# Altium integrated library Capacitors - Ceramic - 0402.IntLib: 4569 symbols (part 38 of 100)
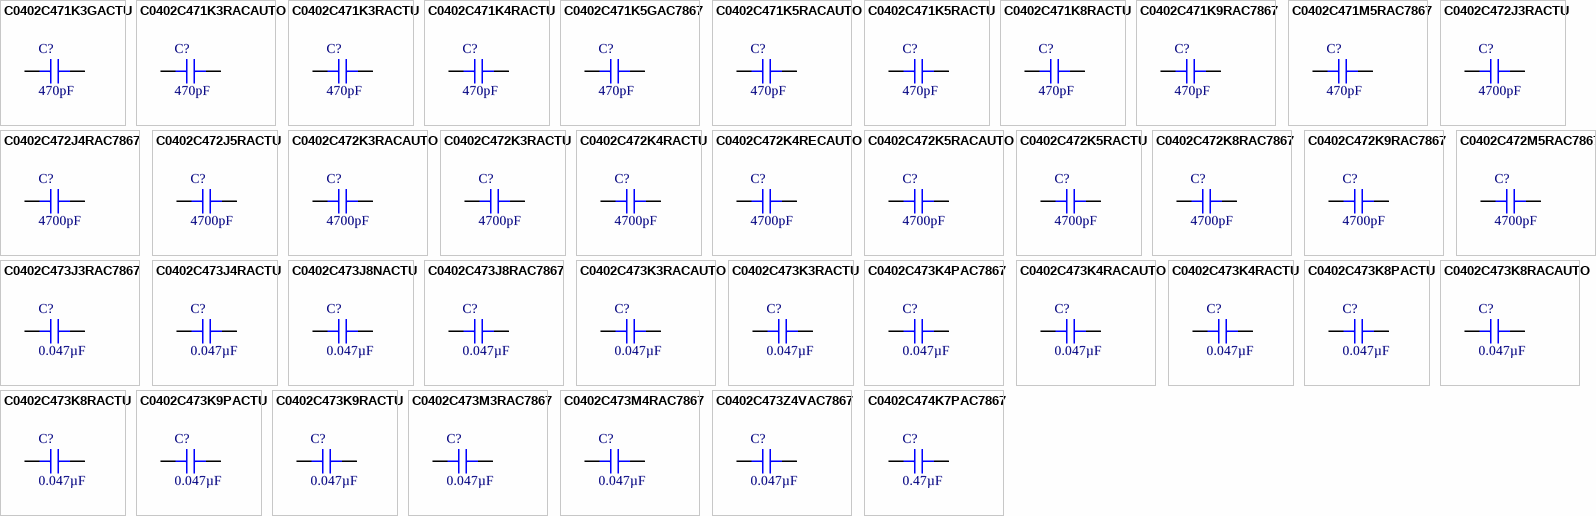
[diagram p151: symbols C0402C471K3GACTU to C0402C474K7PAC7867]

## C0402C471K3RACAUTO
designator C?, comment 470pF
CAP CER 470PF 25V X7R 0402; Part Number: C0402C471K3RACAUTO; Manufacturer: KEMET; Tolerance: ±10%; Value: 470pF; Applications: Automotive, Bypass, Decoupling; Capacitance: 470pF; ComponentLink1Description: Datasheet; ComponentLink1URL: https://api.kemet.com/component-edge/download/datasheet/C0402C471K3RACAUTO.pdf; ComponentLink2Description: DigiKey Link; ComponentLink2URL: http://digikey.com/product-detail/en/kemet/C0402C471K3RACAUTO/399-19377-1-ND/9694284; Device Package: 0402 (1005 Metric); LastUpdated: 9/2/2020 1:02:07 AM; Lifecycle Status: Active; Minimum Order: 1; Mounting Type: Surface Mount, MLCC; Operating Temperature: -55°C ~ 125°C; Package / Case: 0402 (1005 Metric); Packaging: TapeAndReel; PartId: 9682; Part Status: Active; Price: 0.08; Ratings: AEC-Q200; Series: SMD Auto X7R; Size / Dimension: 0.039" L x 0.020" W (1.00mm x 0.50mm); Supplier 1: DigiKey; Supplier Part Number 1: 399-19377-1-ND; Temperature Coefficient: X7R; Thickness (Max): 0.022" (0.55mm); Voltage - Rated: 25V
footprint CAP 0402_1005
pins: 1, 2

## C0402C471K3RACTU
designator C?, comment 470pF
CAP CER 470PF 25V X7R 0402; Part Number: C0402C471K3RACTU; Manufacturer: KEMET; Tolerance: ±10%; Value: 470pF; Applications: Bypass, Decoupling; Capacitance: 470pF; ComponentLink1Description: Datasheet; ComponentLink1URL: https://api.kemet.com/component-edge/download/datasheet/C0402C471K3RACTU.pdf; ComponentLink2Description: DigiKey Link; ComponentLink2URL: http://digikey.com/product-detail/en/kemet/C0402C471K3RACTU/399-1024-1-ND/411299; Device Package: 0402 (1005 Metric); LastUpdated: 9/2/2020 1:02:07 AM; Lifecycle Status: Active; Minimum Order: 1; Mounting Type: Surface Mount, MLCC; Operating Temperature: -55°C ~ 125°C; Package / Case: 0402 (1005 Metric); Packaging: TapeAndReel; PartId: 9649; Part Status: Active; Price: 0.08; Series: SMD Comm X7R; Size / Dimension: 0.039" L x 0.020" W (1.00mm x 0.50mm); Supplier 1: DigiKey; Supplier Part Number 1: 399-1024-1-ND; Temperature Coefficient: X7R; Thickness (Max): 0.022" (0.55mm); Voltage - Rated: 25V
footprint CAP 0402_1005
pins: 1, 2

## C0402C471K4RACTU
designator C?, comment 470pF
CAP CER 470PF 16V X7R 0402; Part Number: C0402C471K4RACTU; Manufacturer: KEMET; Tolerance: ±10%; Value: 470pF; Applications: Bypass, Decoupling; Capacitance: 470pF; ComponentLink1Description: Datasheet; ComponentLink1URL: https://api.kemet.com/component-edge/download/datasheet/C0402C471K4RACTU.pdf; ComponentLink2Description: DigiKey Link; ComponentLink2URL: http://digikey.com/product-detail/en/kemet/C0402C471K4RACTU/399-7799-1-ND/3471522; Device Package: 0402 (1005 Metric); LastUpdated: 9/2/2020 1:02:07 AM; Lifecycle Status: Active; Minimum Order: 1; Mounting Type: Surface Mount, MLCC; Operating Temperature: -55°C ~ 125°C; Package / Case: 0402 (1005 Metric); Packaging: TapeAndReel; PartId: 9664; Part Status: Active; Price: 0.08; Series: SMD Comm X7R; Size / Dimension: 0.039" L x 0.020" W (1.00mm x 0.50mm); Supplier 1: DigiKey; Supplier Part Number 1: 399-7799-1-ND; Temperature Coefficient: X7R; Thickness (Max): 0.022" (0.55mm); Voltage - Rated: 16V
footprint CAP 0402_1005
pins: 1, 2

## C0402C471K5GAC7867
designator C?, comment 470pF
CAP CER 470PF 50V NP0 0402; Part Number: C0402C471K5GAC7867; Manufacturer: KEMET; Temperature Coefficient: C0G, NP0; Tolerance: ±10%; Value: 470pF; Applications: General Purpose; Capacitance: 470pF; ComponentLink1Description: Datasheet; ComponentLink1URL: https://api.kemet.com/component-edge/download/datasheet/C0402C471K5GAC7867.pdf; ComponentLink2Description: DigiKey Link; ComponentLink2URL: http://digikey.com/product-detail/en/kemet/C0402C471K5GAC7867/399-14276-1-ND/6827267; Device Package: 0402 (1005 Metric); Features: Low ESL; LastUpdated: 9/2/2020 1:02:24 AM; Lifecycle Status: Active; Minimum Order: 1; Mounting Type: Surface Mount, MLCC; Operating Temperature: -55°C ~ 125°C; Package / Case: 0402 (1005 Metric); Packaging: TapeAndReel; PartId: 2083; Part Status: Active; Price: 0.02; Series: SMD Comm C0G; Size / Dimension: 0.039" L x 0.020" W (1.00mm x 0.50mm); Supplier 1: DigiKey; Supplier Part Number 1: 399-14276-1-ND; Thickness (Max): 0.022" (0.55mm); Voltage - Rated: 50V
footprint CAP 0402_1005
pins: 1, 2

## C0402C471K5RACAUTO
designator C?, comment 470pF
CAP CER 470PF 50V X7R 0402; Part Number: C0402C471K5RACAUTO; Manufacturer: KEMET; Tolerance: ±10%; Value: 470pF; Applications: Automotive, Bypass, Decoupling; Capacitance: 470pF; ComponentLink1Description: Datasheet; ComponentLink1URL: https://api.kemet.com/component-edge/download/datasheet/C0402C471K5RACAUTO.pdf; ComponentLink2Description: DigiKey Link; ComponentLink2URL: http://digikey.com/product-detail/en/kemet/C0402C471K5RACAUTO/399-15942-1-ND/7516442; Device Package: 0402 (1005 Metric); LastUpdated: 9/2/2020 1:02:22 AM; Lifecycle Status: Active; Minimum Order: 1; Mounting Type: Surface Mount, MLCC; Operating Temperature: -55°C ~ 125°C; Package / Case: 0402 (1005 Metric); Packaging: TapeAndReel; PartId: 2923; Part Status: Active; Price: 0.01; Ratings: AEC-Q200; Series: SMD Auto X7R; Size / Dimension: 0.039" L x 0.020" W (1.00mm x 0.50mm); Supplier 1: DigiKey; Supplier Part Number 1: 399-15942-1-ND; Temperature Coefficient: X7R; Thickness (Max): 0.022" (0.55mm); Voltage - Rated: 50V
footprint CAP 0402_1005
pins: 1, 2

## C0402C471K5RACTU
designator C?, comment 470pF
CAP CER 470PF 50V X7R 0402; Part Number: C0402C471K5RACTU; Manufacturer: KEMET; Tolerance: ±10%; Value: 470pF; Applications: Bypass, Decoupling; Capacitance: 470pF; ComponentLink1Description: Datasheet; ComponentLink1URL: https://api.kemet.com/component-edge/download/datasheet/C0402C471K5RACTU.pdf; ComponentLink2Description: DigiKey Link; ComponentLink2URL: http://digikey.com/product-detail/en/kemet/C0402C471K5RACTU/399-1025-1-ND/411300; Device Package: 0402 (1005 Metric); LastUpdated: 9/2/2020 1:02:19 AM; Lifecycle Status: Active; Minimum Order: 1; Mounting Type: Surface Mount, MLCC; Operating Temperature: -55°C ~ 125°C; Package / Case: 0402 (1005 Metric); Packaging: TapeAndReel; PartId: 4012; Part Status: Active; Price: 0.01; Series: SMD Comm X7R; Size / Dimension: 0.039" L x 0.020" W (1.00mm x 0.50mm); Supplier 1: DigiKey; Supplier Part Number 1: 399-1025-1-ND; Temperature Coefficient: X7R; Thickness (Max): 0.022" (0.55mm); Voltage - Rated: 50V
footprint CAP 0402_1005
pins: 1, 2

## C0402C471K8RACTU
designator C?, comment 470pF
CAP CER 470PF 10V X7R 0402; Part Number: C0402C471K8RACTU; Manufacturer: KEMET; Tolerance: ±10%; Value: 470pF; Applications: Bypass, Decoupling; Capacitance: 470pF; ComponentLink1Description: Datasheet; ComponentLink1URL: https://api.kemet.com/component-edge/download/datasheet/C0402C471K8RACTU.pdf; ComponentLink2Description: DigiKey Link; ComponentLink2URL: http://digikey.com/product-detail/en/kemet/C0402C471K8RACTU/399-10036-1-ND/3739531; Device Package: 0402 (1005 Metric); LastUpdated: 9/2/2020 1:02:23 AM; Lifecycle Status: Active; Minimum Order: 1; Mounting Type: Surface Mount, MLCC; Operating Temperature: -55°C ~ 125°C; Package / Case: 0402 (1005 Metric); Packaging: TapeAndReel; PartId: 2113; Part Status: Active; Price: 0.07; Series: SMD Comm X7R; Size / Dimension: 0.039" L x 0.020" W (1.00mm x 0.50mm); Supplier 1: DigiKey; Supplier Part Number 1: 399-10036-1-ND; Temperature Coefficient: X7R; Thickness (Max): 0.022" (0.55mm); Voltage - Rated: 10V
footprint CAP 0402_1005
pins: 1, 2

## C0402C471K9RAC7867
designator C?, comment 470pF
CAP CER 470PF 6.3V X7R 0402; Part Number: C0402C471K9RAC7867; Manufacturer: KEMET; Tolerance: ±10%; Value: 470pF; Applications: Bypass, Decoupling; Capacitance: 470pF; ComponentLink1Description: Datasheet; ComponentLink1URL: https://api.kemet.com/component-edge/download/datasheet/C0402C471K9RACTU.pdf; ComponentLink2Description: DigiKey Link; ComponentLink2URL: http://digikey.com/product-detail/en/kemet/C0402C471K9RAC7867/399-14458-1-ND/7103750; Device Package: 0402 (1005 Metric); LastUpdated: 9/2/2020 1:02:03 AM; Lifecycle Status: Active; Minimum Order: 1; Mounting Type: Surface Mount, MLCC; Operating Temperature: -55°C ~ 125°C; Package / Case: 0402 (1005 Metric); Packaging: TapeAndReel; PartId: 11171; Part Status: Active; Price: 0.07; Series: SMD Comm X7R; Size / Dimension: 0.039" L x 0.020" W (1.00mm x 0.50mm); Supplier 1: DigiKey; Supplier Part Number 1: 399-14458-1-ND; Temperature Coefficient: X7R; Thickness (Max): 0.022" (0.55mm); Voltage - Rated: 6.3V
footprint CAP 0402_1005
pins: 1, 2

## C0402C471M5RAC7867
designator C?, comment 470pF
CAP CER 470PF 50V X7R 0402; Part Number: C0402C471M5RAC7867; Manufacturer: KEMET; Tolerance: ±20%; Value: 470pF; Applications: Bypass, Decoupling; Capacitance: 470pF; ComponentLink1Description: Datasheet; ComponentLink1URL: https://api.kemet.com/component-edge/download/datasheet/C0402C471M5RACTU.pdf; ComponentLink2Description: DigiKey Link; ComponentLink2URL: http://digikey.com/product-detail/en/kemet/C0402C471M5RAC7867/399-14277-1-ND/6827268; Device Package: 0402 (1005 Metric); LastUpdated: 9/2/2020 1:02:05 AM; Lifecycle Status: Active; Minimum Order: 1; Mounting Type: Surface Mount, MLCC; Operating Temperature: -55°C ~ 125°C; Package / Case: 0402 (1005 Metric); Packaging: TapeAndReel; PartId: 10289; Part Status: Active; Price: 0.01; Series: SMD Comm X7R; Size / Dimension: 0.039" L x 0.020" W (1.00mm x 0.50mm); Supplier 1: DigiKey; Supplier Part Number 1: 399-14277-1-ND; Temperature Coefficient: X7R; Thickness (Max): 0.022" (0.55mm); Voltage - Rated: 50V
footprint CAP 0402_1005
pins: 1, 2

## C0402C472J3RACTU
designator C?, comment 4700pF
CAP CER 4700PF 25V X7R 0402; Part Number: C0402C472J3RACTU; Manufacturer: KEMET; Tolerance: ±5%; Value: 4700pF; Applications: Bypass, Decoupling; Capacitance: 4700pF; ComponentLink1Description: Datasheet; ComponentLink1URL: https://api.kemet.com/component-edge/download/datasheet/C0402C472J3RACTU.pdf; ComponentLink2Description: DigiKey Link; ComponentLink2URL: http://digikey.com/product-detail/en/kemet/C0402C472J3RACTU/399-7800-1-ND/3471523; Device Package: 0402 (1005 Metric); LastUpdated: 9/2/2020 1:02:07 AM; Lifecycle Status: Active; Minimum Order: 1; Mounting Type: Surface Mount, MLCC; Operating Temperature: -55°C ~ 125°C; Package / Case: 0402 (1005 Metric); Packaging: TapeAndReel; PartId: 9680; Part Status: Active; Price: 0.08; Series: SMD Comm X7R; Size / Dimension: 0.039" L x 0.020" W (1.00mm x 0.50mm); Supplier 1: DigiKey; Supplier Part Number 1: 399-7800-1-ND; Temperature Coefficient: X7R; Thickness (Max): 0.022" (0.55mm); Voltage - Rated: 25V
footprint CAP 0402_1005
pins: 1, 2

## C0402C472J4RAC7867
designator C?, comment 4700pF
CAP CER 4700PF 16V X7R 0402; Part Number: C0402C472J4RAC7867; Manufacturer: KEMET; Tolerance: ±5%; Value: 4700pF; Applications: Bypass, Decoupling; Capacitance: 4700pF; ComponentLink1Description: Datasheet; ComponentLink1URL: https://api.kemet.com/component-edge/download/datasheet/C0402C472J4RACTU.pdf; ComponentLink2Description: DigiKey Link; ComponentLink2URL: http://digikey.com/product-detail/en/kemet/C0402C472J4RAC7867/399-14459-1-ND/7103751; Device Package: 0402 (1005 Metric); LastUpdated: 9/2/2020 1:02:20 AM; Lifecycle Status: Active; Minimum Order: 1; Mounting Type: Surface Mount, MLCC; Operating Temperature: -55°C ~ 125°C; Package / Case: 0402 (1005 Metric); Packaging: TapeAndReel; PartId: 3738; Part Status: Active; Price: 0.10; Series: SMD Comm X7R; Size / Dimension: 0.039" L x 0.020" W (1.00mm x 0.50mm); Supplier 1: DigiKey; Supplier Part Number 1: 399-14459-1-ND; Temperature Coefficient: X7R; Thickness (Max): 0.022" (0.55mm); Voltage - Rated: 16V
footprint CAP 0402_1005
pins: 1, 2

## C0402C472J5RACTU
designator C?, comment 4700pF
CAP CER 4700PF 50V X7R 0402; Part Number: C0402C472J5RACTU; Manufacturer: KEMET; Tolerance: ±5%; Value: 4700pF; Applications: Bypass, Decoupling; Capacitance: 4700pF; ComponentLink1Description: Datasheet; ComponentLink1URL: https://api.kemet.com/component-edge/download/datasheet/C0402C472J5RACTU.pdf; ComponentLink2Description: DigiKey Link; ComponentLink2URL: http://digikey.com/product-detail/en/kemet/C0402C472J5RACTU/399-8968-1-ND/3522485; Device Package: 0402 (1005 Metric); LastUpdated: 9/2/2020 1:02:20 AM; Lifecycle Status: Active; Minimum Order: 1; Mounting Type: Surface Mount, MLCC; Operating Temperature: -55°C ~ 125°C; Package / Case: 0402 (1005 Metric); Packaging: TapeAndReel; PartId: 3740; Part Status: Active; Price: 0.08; Series: SMD Comm X7R; Size / Dimension: 0.039" L x 0.020" W (1.00mm x 0.50mm); Supplier 1: DigiKey; Supplier Part Number 1: 399-8968-1-ND; Temperature Coefficient: X7R; Thickness (Max): 0.022" (0.55mm); Voltage - Rated: 50V
footprint CAP 0402_1005
pins: 1, 2

## C0402C472K3RACAUTO
designator C?, comment 4700pF
CAP CER 4700PF 25V X7R 0402; Part Number: C0402C472K3RACAUTO; Manufacturer: KEMET; Tolerance: ±10%; Value: 4700pF; Applications: Automotive, Bypass, Decoupling; Capacitance: 4700pF; ComponentLink1Description: Datasheet; ComponentLink1URL: https://api.kemet.com/component-edge/download/datasheet/C0402C472K3RACAUTO.pdf; ComponentLink2Description: DigiKey Link; ComponentLink2URL: http://digikey.com/product-detail/en/kemet/C0402C472K3RACAUTO/399-19378-1-ND/9694285; Device Package: 0402 (1005 Metric); LastUpdated: 9/2/2020 1:02:17 AM; Lifecycle Status: Active; Minimum Order: 1; Mounting Type: Surface Mount, MLCC; Operating Temperature: -55°C ~ 125°C; Package / Case: 0402 (1005 Metric); Packaging: TapeAndReel; PartId: 5141; Part Status: Active; Price: 0.01; Ratings: AEC-Q200; Series: SMD Auto X7R; Size / Dimension: 0.039" L x 0.020" W (1.00mm x 0.50mm); Supplier 1: DigiKey; Supplier Part Number 1: 399-19378-1-ND; Temperature Coefficient: X7R; Thickness (Max): 0.022" (0.55mm); Voltage - Rated: 25V
footprint CAP 0402_1005
pins: 1, 2

## C0402C472K3RACTU
designator C?, comment 4700pF
CAP CER 4700PF 25V X7R 0402; Part Number: C0402C472K3RACTU; Manufacturer: KEMET; Tolerance: ±10%; Value: 4700pF; Applications: Bypass, Decoupling; Capacitance: 4700pF; ComponentLink1Description: Datasheet; ComponentLink1URL: https://api.kemet.com/component-edge/download/datasheet/C0402C472K3RACTU.pdf; ComponentLink2Description: DigiKey Link; ComponentLink2URL: http://digikey.com/product-detail/en/kemet/C0402C472K3RACTU/399-1035-1-ND/411310; Device Package: 0402 (1005 Metric); LastUpdated: 9/2/2020 1:02:19 AM; Lifecycle Status: Active; Minimum Order: 1; Mounting Type: Surface Mount, MLCC; Operating Temperature: -55°C ~ 125°C; Package / Case: 0402 (1005 Metric); Packaging: TapeAndReel; PartId: 4062; Part Status: Active; Price: 0.01; Series: SMD Comm X7R; Size / Dimension: 0.039" L x 0.020" W (1.00mm x 0.50mm); Supplier 1: DigiKey; Supplier Part Number 1: 399-1035-1-ND; Temperature Coefficient: X7R; Thickness (Max): 0.022" (0.55mm); Voltage - Rated: 25V
footprint CAP 0402_1005
pins: 1, 2

## C0402C472K4RACTU
designator C?, comment 4700pF
CAP CER 4700PF 16V X7R 0402; Part Number: C0402C472K4RACTU; Manufacturer: KEMET; Tolerance: ±10%; Value: 4700pF; Applications: Bypass, Decoupling; Capacitance: 4700pF; ComponentLink1Description: Datasheet; ComponentLink1URL: https://api.kemet.com/component-edge/download/datasheet/C0402C472K4RACTU.pdf; ComponentLink2Description: DigiKey Link; ComponentLink2URL: http://digikey.com/product-detail/en/kemet/C0402C472K4RACTU/399-7801-1-ND/3471524; Device Package: 0402 (1005 Metric); LastUpdated: 9/2/2020 1:02:07 AM; Lifecycle Status: Active; Minimum Order: 1; Mounting Type: Surface Mount, MLCC; Operating Temperature: -55°C ~ 125°C; Package / Case: 0402 (1005 Metric); Packaging: TapeAndReel; PartId: 9656; Part Status: Active; Price: 0.08; Series: SMD Comm X7R; Size / Dimension: 0.039" L x 0.020" W (1.00mm x 0.50mm); Supplier 1: DigiKey; Supplier Part Number 1: 399-7801-1-ND; Temperature Coefficient: X7R; Thickness (Max): 0.022" (0.55mm); Voltage - Rated: 16V
footprint CAP 0402_1005
pins: 1, 2

## C0402C472K4RECAUTO
designator C?, comment 4700pF
CAP CER 0402 4.7NF 16V X7R 10%; Part Number: C0402C472K4RECAUTO; Manufacturer: KEMET; Value: 4700pF; Applications: Automotive, ESD Protection; Capacitance: 4700pF; ComponentLink1Description: Datasheet; ComponentLink1URL: https://api.kemet.com/component-edge/download/datasheet/C0402C472K4RECAUTO.pdf; ComponentLink2Description: DigiKey Link; ComponentLink2URL: http://digikey.com/product-detail/en/kemet/C0402C472K4RECAUTO/399-17875-1-ND/8640542; Device Package: 0402 (1005 Metric); LastUpdated: 9/2/2020 1:01:52 AM; Lifecycle Status: Active; Minimum Order: 1; Mounting Type: Surface Mount, MLCC; Operating Temperature: -55°C ~ 125°C; Package / Case: 0402 (1005 Metric); Packaging: TapeAndReel; PartId: 12122; Part Status: Active; Price: 0.02; Ratings: AEC-Q200; Series: ESD SMD Auto X7R; Size / Dimension: 0.039" L x 0.020" W (1.00mm x 0.50mm); Supplier 1: DigiKey; Supplier Part Number 1: 399-17875-1-ND; Temperature Coefficient: X7R; Thickness (Max): 0.022" (0.55mm); Tolerance: ±10%; Voltage - Rated: 16V
footprint CAP 0402_1005
pins: 1, 2

## C0402C472K5RACAUTO
designator C?, comment 4700pF
CAP CER 4700PF 50V X7R 0402; Part Number: C0402C472K5RACAUTO; Manufacturer: KEMET; Tolerance: ±10%; Value: 4700pF; Applications: Automotive, Bypass, Decoupling; Capacitance: 4700pF; ComponentLink1Description: Datasheet; ComponentLink1URL: https://api.kemet.com/component-edge/download/datasheet/C0402C472K5RACAUTO.pdf; ComponentLink2Description: DigiKey Link; ComponentLink2URL: http://digikey.com/product-detail/en/kemet/C0402C472K5RACAUTO/399-16014-1-ND/7516513; Device Package: 0402 (1005 Metric); LastUpdated: 9/2/2020 1:02:15 AM; Lifecycle Status: Active; Minimum Order: 1; Mounting Type: Surface Mount, MLCC; Operating Temperature: -55°C ~ 125°C; Package / Case: 0402 (1005 Metric); Packaging: TapeAndReel; PartId: 5694; Part Status: Active; Price: 0.01; Ratings: AEC-Q200; Series: SMD Auto X7R; Size / Dimension: 0.039" L x 0.020" W (1.00mm x 0.50mm); Supplier 1: DigiKey; Supplier Part Number 1: 399-16014-1-ND; Temperature Coefficient: X7R; Thickness (Max): 0.022" (0.55mm); Voltage - Rated: 50V
footprint CAP 0402_1005
pins: 1, 2

## C0402C472K5RACTU
designator C?, comment 4700pF
CAP CER 4700PF 50V X7R 0402; Part Number: C0402C472K5RACTU; Manufacturer: KEMET; Tolerance: ±10%; Value: 4700pF; Applications: Bypass, Decoupling; Capacitance: 4700pF; ComponentLink1Description: Datasheet; ComponentLink1URL: https://api.kemet.com/component-edge/download/datasheet/C0402C472K5RACTU.pdf; ComponentLink2Description: DigiKey Link; ComponentLink2URL: http://digikey.com/product-detail/en/kemet/C0402C472K5RACTU/399-3072-1-ND/502001; Device Package: 0402 (1005 Metric); LastUpdated: 9/2/2020 1:02:12 AM; Lifecycle Status: Active; Minimum Order: 1; Mounting Type: Surface Mount, MLCC; Operating Temperature: -55°C ~ 125°C; Package / Case: 0402 (1005 Metric); Packaging: TapeAndReel; PartId: 7074; Part Status: Active; Price: 0.01; Series: SMD Comm X7R; Size / Dimension: 0.039" L x 0.020" W (1.00mm x 0.50mm); Supplier 1: DigiKey; Supplier Part Number 1: 399-3072-1-ND; Temperature Coefficient: X7R; Thickness (Max): 0.022" (0.55mm); Voltage - Rated: 50V
footprint CAP 0402_1005
pins: 1, 2

## C0402C472K8RAC7867
designator C?, comment 4700pF
CAP CER 4700PF 10V X7R 0402; Part Number: C0402C472K8RAC7867; Manufacturer: KEMET; Tolerance: ±10%; Value: 4700pF; Applications: Bypass, Decoupling; Capacitance: 4700pF; ComponentLink1Description: Datasheet; ComponentLink1URL: https://api.kemet.com/component-edge/download/datasheet/C0402C472K8RACTU.pdf; ComponentLink2Description: DigiKey Link; ComponentLink2URL: http://digikey.com/product-detail/en/kemet/C0402C472K8RAC7867/399-15332-1-ND/7386730; Device Package: 0402 (1005 Metric); LastUpdated: 9/2/2020 1:02:23 AM; Lifecycle Status: Active; Minimum Order: 1; Mounting Type: Surface Mount, MLCC; Operating Temperature: -55°C ~ 125°C; Package / Case: 0402 (1005 Metric); Packaging: TapeAndReel; PartId: 2108; Part Status: Active; Price: 0.07; Series: SMD Comm X7R; Size / Dimension: 0.039" L x 0.020" W (1.00mm x 0.50mm); Supplier 1: DigiKey; Supplier Part Number 1: 399-15332-1-ND; Temperature Coefficient: X7R; Thickness (Max): 0.022" (0.55mm); Voltage - Rated: 10V
footprint CAP 0402_1005
pins: 1, 2

## C0402C472K9RAC7867
designator C?, comment 4700pF
CAP CER 4700PF 6.3V X7R 0402; Part Number: C0402C472K9RAC7867; Manufacturer: KEMET; Tolerance: ±10%; Value: 4700pF; Applications: Bypass, Decoupling; Capacitance: 4700pF; ComponentLink1Description: Datasheet; ComponentLink1URL: https://api.kemet.com/component-edge/download/datasheet/C0402C472K9RAC7867.pdf; ComponentLink2Description: DigiKey Link; ComponentLink2URL: http://digikey.com/product-detail/en/kemet/C0402C472K9RAC7867/399-14915-1-ND/7382464; Device Package: 0402 (1005 Metric); LastUpdated: 9/2/2020 1:02:20 AM; Lifecycle Status: Active; Minimum Order: 1; Mounting Type: Surface Mount, MLCC; Operating Temperature: -55°C ~ 125°C; Package / Case: 0402 (1005 Metric); Packaging: TapeAndReel; PartId: 3716; Part Status: Active; Price: 0.08; Series: SMD Comm X7R; Size / Dimension: 0.039" L x 0.020" W (1.00mm x 0.50mm); Supplier 1: DigiKey; Supplier Part Number 1: 399-14915-1-ND; Temperature Coefficient: X7R; Thickness (Max): 0.022" (0.55mm); Voltage - Rated: 6.3V
footprint CAP 0402_1005
pins: 1, 2

## C0402C472M5RAC7867
designator C?, comment 4700pF
CAP CER 4700PF 50V X7R 0402; Part Number: C0402C472M5RAC7867; Manufacturer: KEMET; Tolerance: ±20%; Value: 4700pF; Applications: Bypass, Decoupling; Capacitance: 4700pF; ComponentLink1Description: Datasheet; ComponentLink1URL: https://api.kemet.com/component-edge/download/datasheet/C0402C472M5RAC7867.pdf; ComponentLink2Description: DigiKey Link; ComponentLink2URL: http://digikey.com/product-detail/en/kemet/C0402C472M5RAC7867/399-14278-1-ND/6827269; Device Package: 0402 (1005 Metric); LastUpdated: 9/2/2020 1:02:06 AM; Lifecycle Status: Active; Minimum Order: 1; Mounting Type: Surface Mount, MLCC; Operating Temperature: -55°C ~ 125°C; Package / Case: 0402 (1005 Metric); Packaging: TapeAndReel; PartId: 10049; Part Status: Active; Price: 0.01; Series: SMD Comm X7R; Size / Dimension: 0.039" L x 0.020" W (1.00mm x 0.50mm); Supplier 1: DigiKey; Supplier Part Number 1: 399-14278-1-ND; Temperature Coefficient: X7R; Thickness (Max): 0.022" (0.55mm); Voltage - Rated: 50V
footprint CAP 0402_1005
pins: 1, 2

## C0402C473J3RAC7867
designator C?, comment 0.047µF
CAP CER 0.047UF 25V X7R 0402; Part Number: C0402C473J3RAC7867; Manufacturer: KEMET; Tolerance: ±5%; Value: 0.047µF; Applications: Bypass, Decoupling; Capacitance: 0.047µF; ComponentLink1Description: Datasheet; ComponentLink1URL: https://api.kemet.com/component-edge/download/datasheet/C0402C473J3RAC7867.pdf; ComponentLink2Description: DigiKey Link; ComponentLink2URL: http://digikey.com/product-detail/en/kemet/C0402C473J3RAC7867/399-9954-1-ND/3736953; Device Package: 0402 (1005 Metric); LastUpdated: 9/2/2020 1:01:31 AM; Lifecycle Status: Active; Minimum Order: 1; Mounting Type: Surface Mount, MLCC; Operating Temperature: -55°C ~ 125°C; Package / Case: 0402 (1005 Metric); Packaging: TapeAndReel; PartId: 12858; Part Status: Active; Price: 0.11; Series: SMD Comm X7R; Size / Dimension: 0.039" L x 0.020" W (1.00mm x 0.50mm); Supplier 1: DigiKey; Supplier Part Number 1: 399-9954-1-ND; Temperature Coefficient: X7R; Thickness (Max): 0.022" (0.55mm); Voltage - Rated: 25V
footprint CAP 0402_1005
pins: 1, 2

## C0402C473J4RACTU
designator C?, comment 0.047µF
CAP CER 0.047UF 16V X7R 0402; Part Number: C0402C473J4RACTU; Manufacturer: KEMET; Tolerance: ±5%; Value: 0.047µF; Applications: Bypass, Decoupling; Capacitance: 0.047µF; ComponentLink1Description: Datasheet; ComponentLink1URL: https://api.kemet.com/component-edge/download/datasheet/C0402C473J4RACTU.pdf; ComponentLink2Description: DigiKey Link; ComponentLink2URL: http://digikey.com/product-detail/en/kemet/C0402C473J4RACTU/399-8969-1-ND/3522486; Device Package: 0402 (1005 Metric); LastUpdated: 9/2/2020 1:02:05 AM; Lifecycle Status: Active; Minimum Order: 1; Mounting Type: Surface Mount, MLCC; Operating Temperature: -55°C ~ 125°C; Package / Case: 0402 (1005 Metric); Packaging: TapeAndReel; PartId: 10499; Part Status: Active; Price: 0.12; Series: SMD Comm X7R; Size / Dimension: 0.039" L x 0.020" W (1.00mm x 0.50mm); Supplier 1: DigiKey; Supplier Part Number 1: 399-8969-1-ND; Temperature Coefficient: X7R; Thickness (Max): 0.022" (0.55mm); Voltage - Rated: 16V
footprint CAP 0402_1005
pins: 1, 2

## C0402C473J8NACTU
designator C?, comment 0.047µF
CAP CER 0.047UF 10V X8L 0402; Part Number: C0402C473J8NACTU; Manufacturer: KEMET; Tolerance: ±5%; Value: 0.047µF; Applications: General Purpose; Capacitance: 0.047µF; ComponentLink1Description: Datasheet; ComponentLink1URL: http://www.kemet.com/Lists/ProductCatalog/Attachments/71/KEM_C1008_X8L_150C_SMD.pdf; ComponentLink2Description: DigiKey Link; ComponentLink2URL: http://digikey.com/product-detail/en/kemet/C0402C473J8NACTU/399-5760-1-ND/2236767; Device Package: 0402 (1005 Metric); Features: High Temperature; LastUpdated: 9/2/2020 1:02:25 AM; Lifecycle Status: Active; Minimum Order: 1; Mounting Type: Surface Mount, MLCC; Operating Temperature: -55°C ~ 150°C; Package / Case: 0402 (1005 Metric); Packaging: TapeAndReel; PartId: 1720; Part Status: Active; Price: 0.02; Series: SMD Comm X8L HT150C; Size / Dimension: 0.039" L x 0.020" W (1.00mm x 0.50mm); Supplier 1: DigiKey; Supplier Part Number 1: 399-5760-1-ND; Temperature Coefficient: X8L; Thickness (Max): 0.022" (0.55mm); Voltage - Rated: 10V
footprint CAP 0402_1005
pins: 1, 2

## C0402C473J8RAC7867
designator C?, comment 0.047µF
CAP CER 0.047UF 10V X7R 0402; Part Number: C0402C473J8RAC7867; Manufacturer: KEMET; Tolerance: ±5%; Value: 0.047µF; Applications: Bypass, Decoupling; Capacitance: 0.047µF; ComponentLink1Description: Datasheet; ComponentLink1URL: https://api.kemet.com/component-edge/download/datasheet/C0402C473J8RACTU.pdf; ComponentLink2Description: DigiKey Link; ComponentLink2URL: http://digikey.com/product-detail/en/kemet/C0402C473J8RAC7867/399-14460-1-ND/7103752; Device Package: 0402 (1005 Metric); LastUpdated: 9/2/2020 1:02:11 AM; Lifecycle Status: Active; Minimum Order: 1; Mounting Type: Surface Mount, MLCC; Operating Temperature: -55°C ~ 125°C; Package / Case: 0402 (1005 Metric); Packaging: TapeAndReel; PartId: 7961; Part Status: Active; Price: 0.11; Series: SMD Comm X7R; Size / Dimension: 0.039" L x 0.020" W (1.00mm x 0.50mm); Supplier 1: DigiKey; Supplier Part Number 1: 399-14460-1-ND; Temperature Coefficient: X7R; Thickness (Max): 0.022" (0.55mm); Voltage - Rated: 10V
footprint CAP 0402_1005
pins: 1, 2

## C0402C473K3RACAUTO
designator C?, comment 0.047µF
CAP CER 0.047UF 25V X7R 0402; Part Number: C0402C473K3RACAUTO; Manufacturer: KEMET; Tolerance: ±10%; Value: 0.047µF; Applications: Automotive, Bypass, Decoupling; Capacitance: 0.047µF; ComponentLink1Description: Datasheet; ComponentLink1URL: https://api.kemet.com/component-edge/download/datasheet/C0402C473K3RACAUTO.pdf; ComponentLink2Description: DigiKey Link; ComponentLink2URL: http://digikey.com/product-detail/en/kemet/C0402C473K3RACAUTO/399-15998-1-ND/7516497; Device Package: 0402 (1005 Metric); LastUpdated: 9/2/2020 1:02:24 AM; Lifecycle Status: Active; Minimum Order: 1; Mounting Type: Surface Mount, MLCC; Operating Temperature: -55°C ~ 125°C; Package / Case: 0402 (1005 Metric); Packaging: TapeAndReel; PartId: 2097; Part Status: Active; Price: 0.02; Ratings: AEC-Q200; Series: SMD Auto X7R; Size / Dimension: 0.039" L x 0.020" W (1.00mm x 0.50mm); Supplier 1: DigiKey; Supplier Part Number 1: 399-15998-1-ND; Temperature Coefficient: X7R; Thickness (Max): 0.022" (0.55mm); Voltage - Rated: 25V
footprint CAP 0402_1005
pins: 1, 2

## C0402C473K3RACTU
designator C?, comment 0.047µF
CAP CER 0.047UF 25V X7R 0402; Part Number: C0402C473K3RACTU; Manufacturer: KEMET; Tolerance: ±10%; Value: 0.047µF; Applications: Bypass, Decoupling; Capacitance: 0.047µF; ComponentLink1Description: Datasheet; ComponentLink1URL: https://api.kemet.com/component-edge/download/datasheet/C0402C473K3RACTU.pdf; ComponentLink2Description: DigiKey Link; ComponentLink2URL: http://digikey.com/product-detail/en/kemet/C0402C473K3RACTU/399-7802-1-ND/3471525; Device Package: 0402 (1005 Metric); LastUpdated: 9/2/2020 1:02:21 AM; Lifecycle Status: Active; Minimum Order: 1; Mounting Type: Surface Mount, MLCC; Operating Temperature: -55°C ~ 125°C; Package / Case: 0402 (1005 Metric); Packaging: TapeAndReel; PartId: 2964; Part Status: Active; Price: 0.01; Series: SMD Comm X7R; Size / Dimension: 0.039" L x 0.020" W (1.00mm x 0.50mm); Supplier 1: DigiKey; Supplier Part Number 1: 399-7802-1-ND; Temperature Coefficient: X7R; Thickness (Max): 0.022" (0.55mm); Voltage - Rated: 25V
footprint CAP 0402_1005
pins: 1, 2

## C0402C473K4PAC7867
designator C?, comment 0.047µF
CAP CER 0.047UF 16V X5R 0402; Part Number: C0402C473K4PAC7867; Manufacturer: KEMET; Tolerance: ±10%; Value: 0.047µF; Applications: General Purpose; Capacitance: 0.047µF; ComponentLink1Description: Datasheet; ComponentLink1URL: https://api.kemet.com/component-edge/download/datasheet/C0402C473K4PAC7867.pdf; ComponentLink2Description: DigiKey Link; ComponentLink2URL: http://digikey.com/product-detail/en/kemet/C0402C473K4PAC7867/399-14916-1-ND/7382465; Device Package: 0402 (1005 Metric); LastUpdated: 9/2/2020 1:02:07 AM; Lifecycle Status: Active; Minimum Order: 1; Mounting Type: Surface Mount, MLCC; Operating Temperature: -55°C ~ 85°C; Package / Case: 0402 (1005 Metric); Packaging: TapeAndReel; PartId: 9677; Part Status: Active; Price: 0.08; Series: SMD Comm X5R; Size / Dimension: 0.039" L x 0.020" W (1.00mm x 0.50mm); Supplier 1: DigiKey; Supplier Part Number 1: 399-14916-1-ND; Temperature Coefficient: X5R; Thickness (Max): 0.022" (0.55mm); Voltage - Rated: 16V
footprint CAP 0402_1005
pins: 1, 2

## C0402C473K4RACAUTO
designator C?, comment 0.047µF
CAP CER 0.047UF 16V X7R 0402; Part Number: C0402C473K4RACAUTO; Manufacturer: KEMET; Tolerance: ±10%; Value: 0.047µF; Applications: Automotive, Bypass, Decoupling; Capacitance: 0.047µF; ComponentLink1Description: Datasheet; ComponentLink1URL: https://api.kemet.com/component-edge/download/datasheet/C0402C473K4RACAUTO.pdf; ComponentLink2Description: DigiKey Link; ComponentLink2URL: http://digikey.com/product-detail/en/kemet/C0402C473K4RACAUTO/399-15988-1-ND/7516487; Device Package: 0402 (1005 Metric); LastUpdated: 9/2/2020 1:02:13 AM; Lifecycle Status: Active; Minimum Order: 1; Mounting Type: Surface Mount, MLCC; Operating Temperature: -55°C ~ 125°C; Package / Case: 0402 (1005 Metric); Packaging: TapeAndReel; PartId: 6811; Part Status: Active; Price: 0.09; Ratings: AEC-Q200; Series: SMD Auto X7R; Size / Dimension: 0.039" L x 0.020" W (1.00mm x 0.50mm); Supplier 1: DigiKey; Supplier Part Number 1: 399-15988-1-ND; Temperature Coefficient: X7R; Thickness (Max): 0.022" (0.55mm); Voltage - Rated: 16V
footprint CAP 0402_1005
pins: 1, 2

## C0402C473K4RACTU
designator C?, comment 0.047µF
CAP CER 0.047UF 16V X7R 0402; Part Number: C0402C473K4RACTU; Manufacturer: KEMET; Tolerance: ±10%; Value: 0.047µF; Applications: Bypass, Decoupling; Capacitance: 0.047µF; ComponentLink1Description: Datasheet; ComponentLink1URL: https://api.kemet.com/component-edge/download/datasheet/C0402C473K4RACTU.pdf; ComponentLink2Description: DigiKey Link; ComponentLink2URL: http://digikey.com/product-detail/en/kemet/C0402C473K4RACTU/399-3519-1-ND/789659; Device Package: 0402 (1005 Metric); LastUpdated: 9/2/2020 1:02:13 AM; Lifecycle Status: Active; Minimum Order: 1; Mounting Type: Surface Mount, MLCC; Operating Temperature: -55°C ~ 125°C; Package / Case: 0402 (1005 Metric); Packaging: TapeAndReel; PartId: 6766; Part Status: Active; Price: 0.09; Series: SMD Comm X7R; Size / Dimension: 0.039" L x 0.020" W (1.00mm x 0.50mm); Supplier 1: DigiKey; Supplier Part Number 1: 399-3519-1-ND; Temperature Coefficient: X7R; Thickness (Max): 0.022" (0.55mm); Voltage - Rated: 16V
footprint CAP 0402_1005
pins: 1, 2

## C0402C473K8PACTU
designator C?, comment 0.047µF
CAP CER 0.047UF 10V X5R 0402; Part Number: C0402C473K8PACTU; Manufacturer: KEMET; Tolerance: ±10%; Value: 0.047µF; Applications: General Purpose; Capacitance: 0.047µF; ComponentLink1Description: Datasheet; ComponentLink1URL: https://api.kemet.com/component-edge/download/datasheet/C0402C473K8PACTU.pdf; ComponentLink2Description: DigiKey Link; ComponentLink2URL: http://digikey.com/product-detail/en/kemet/C0402C473K8PACTU/399-3021-1-ND/447597; Device Package: 0402 (1005 Metric); LastUpdated: 9/2/2020 1:02:10 AM; Lifecycle Status: Active; Minimum Order: 1; Mounting Type: Surface Mount, MLCC; Operating Temperature: -55°C ~ 85°C; Package / Case: 0402 (1005 Metric); Packaging: TapeAndReel; PartId: 8470; Part Status: Active; Price: 0.02; Series: SMD Comm X5R; Size / Dimension: 0.039" L x 0.020" W (1.00mm x 0.50mm); Supplier 1: DigiKey; Supplier Part Number 1: 399-3021-1-ND; Temperature Coefficient: X5R; Thickness (Max): 0.022" (0.55mm); Voltage - Rated: 10V
footprint CAP 0402_1005
pins: 1, 2

## C0402C473K8RACAUTO
designator C?, comment 0.047µF
CAP CER 0.047UF 10V X7R 0402; Part Number: C0402C473K8RACAUTO; Manufacturer: KEMET; Tolerance: ±10%; Value: 0.047µF; Applications: Automotive, Bypass, Decoupling; Capacitance: 0.047µF; ComponentLink1Description: Datasheet; ComponentLink1URL: https://api.kemet.com/component-edge/download/specsheet/C0402C473K8RACAUTO.pdf; ComponentLink2Description: DigiKey Link; ComponentLink2URL: http://digikey.com/product-detail/en/kemet/C0402C473K8RACAUTO/399-6838-1-ND/3314353; Device Package: 0402 (1005 Metric); LastUpdated: 9/2/2020 1:02:10 AM; Lifecycle Status: Active; Minimum Order: 1; Mounting Type: Surface Mount, MLCC; Operating Temperature: -55°C ~ 125°C; Package / Case: 0402 (1005 Metric); Packaging: TapeAndReel; PartId: 8141; Part Status: Active; Price: 0.01; Ratings: AEC-Q200; Series: SMD Auto X7R; Size / Dimension: 0.039" L x 0.020" W (1.00mm x 0.50mm); Supplier 1: DigiKey; Supplier Part Number 1: 399-6838-1-ND; Temperature Coefficient: X7R; Thickness (Max): 0.022" (0.55mm); Voltage - Rated: 10V
footprint CAP 0402_1005
pins: 1, 2

## C0402C473K8RACTU
designator C?, comment 0.047µF
CAP CER 0.047UF 10V X7R 0402; Part Number: C0402C473K8RACTU; Manufacturer: KEMET; Tolerance: ±10%; Value: 0.047µF; Applications: Bypass, Decoupling; Capacitance: 0.047µF; ComponentLink1Description: Datasheet; ComponentLink1URL: https://api.kemet.com/component-edge/download/datasheet/C0402C473K8RACTU.pdf; ComponentLink2Description: DigiKey Link; ComponentLink2URL: http://digikey.com/product-detail/en/kemet/C0402C473K8RACTU/399-4897-1-ND/1090892; Device Package: 0402 (1005 Metric); LastUpdated: 9/2/2020 1:01:34 AM; Lifecycle Status: Active; Minimum Order: 1; Mounting Type: Surface Mount, MLCC; Operating Temperature: -55°C ~ 125°C; Package / Case: 0402 (1005 Metric); Packaging: TapeAndReel; PartId: 12730; Part Status: Active; Price: 0.01; Series: SMD Comm X7R; Size / Dimension: 0.039" L x 0.020" W (1.00mm x 0.50mm); Supplier 1: DigiKey; Supplier Part Number 1: 399-4897-1-ND; Temperature Coefficient: X7R; Thickness (Max): 0.022" (0.55mm); Voltage - Rated: 10V
footprint CAP 0402_1005
pins: 1, 2

## C0402C473K9PACTU
designator C?, comment 0.047µF
CAP CER 0.047UF 6.3V X5R 0402; Part Number: C0402C473K9PACTU; Manufacturer: KEMET; Tolerance: ±10%; Value: 0.047µF; Applications: General Purpose; Capacitance: 0.047µF; ComponentLink1Description: Datasheet; ComponentLink1URL: https://api.kemet.com/component-edge/download/datasheet/C0402C473K9PACTU.pdf; ComponentLink2Description: DigiKey Link; ComponentLink2URL: http://digikey.com/product-detail/en/kemet/C0402C473K9PACTU/399-3020-1-ND/447598; Device Package: 0402 (1005 Metric); LastUpdated: 9/2/2020 1:02:15 AM; Lifecycle Status: Active; Minimum Order: 1; Mounting Type: Surface Mount, MLCC; Operating Temperature: -55°C ~ 85°C; Package / Case: 0402 (1005 Metric); Packaging: TapeAndReel; PartId: 5979; Part Status: Active; Price: 0.05; Series: SMD Comm X5R; Size / Dimension: 0.039" L x 0.020" W (1.00mm x 0.50mm); Supplier 1: DigiKey; Supplier Part Number 1: 399-3020-1-ND; Temperature Coefficient: X5R; Thickness (Max): 0.022" (0.55mm); Voltage - Rated: 6.3V
footprint CAP 0402_1005
pins: 1, 2

## C0402C473K9RACTU
designator C?, comment 0.047µF
CAP CER 0.047UF 6.3V X7R 0402; Part Number: C0402C473K9RACTU; Manufacturer: KEMET; Tolerance: ±10%; Value: 0.047µF; Applications: Bypass, Decoupling; Capacitance: 0.047µF; ComponentLink1Description: Datasheet; ComponentLink1URL: https://api.kemet.com/component-edge/download/datasheet/C0402C473K9RACTU.pdf; ComponentLink2Description: DigiKey Link; ComponentLink2URL: http://digikey.com/product-detail/en/kemet/C0402C473K9RACTU/399-4898-1-ND/1090893; Device Package: 0402 (1005 Metric); LastUpdated: 9/2/2020 1:02:07 AM; Lifecycle Status: Active; Minimum Order: 1; Mounting Type: Surface Mount, MLCC; Operating Temperature: -55°C ~ 125°C; Package / Case: 0402 (1005 Metric); Packaging: TapeAndReel; PartId: 9661; Part Status: Active; Price: 0.08; Series: SMD Comm X7R; Size / Dimension: 0.039" L x 0.020" W (1.00mm x 0.50mm); Supplier 1: DigiKey; Supplier Part Number 1: 399-4898-1-ND; Temperature Coefficient: X7R; Thickness (Max): 0.022" (0.55mm); Voltage - Rated: 6.3V
footprint CAP 0402_1005
pins: 1, 2

## C0402C473M3RAC7867
designator C?, comment 0.047µF
CAP CER 0.047UF 25V X7R 0402; Part Number: C0402C473M3RAC7867; Manufacturer: KEMET; Tolerance: ±20%; Value: 0.047µF; Applications: Bypass, Decoupling; Capacitance: 0.047µF; ComponentLink1Description: Datasheet; ComponentLink1URL: https://api.kemet.com/component-edge/download/datasheet/C0402C473M3RAC7867.pdf; ComponentLink2Description: DigiKey Link; ComponentLink2URL: http://digikey.com/product-detail/en/kemet/C0402C473M3RAC7867/399-14279-1-ND/6827270; Device Package: 0402 (1005 Metric); LastUpdated: 9/2/2020 1:02:12 AM; Lifecycle Status: Active; Minimum Order: 1; Mounting Type: Surface Mount, MLCC; Operating Temperature: -55°C ~ 125°C; Package / Case: 0402 (1005 Metric); Packaging: TapeAndReel; PartId: 7360; Part Status: Active; Price: 0.01; Series: SMD Comm X7R; Size / Dimension: 0.039" L x 0.020" W (1.00mm x 0.50mm); Supplier 1: DigiKey; Supplier Part Number 1: 399-14279-1-ND; Temperature Coefficient: X7R; Thickness (Max): 0.022" (0.55mm); Voltage - Rated: 25V
footprint CAP 0402_1005
pins: 1, 2

## C0402C473M4RAC7867
designator C?, comment 0.047µF
CAP CER 0.047UF 16V X7R 0402; Part Number: C0402C473M4RAC7867; Manufacturer: KEMET; Tolerance: ±20%; Value: 0.047µF; Applications: Bypass, Decoupling; Capacitance: 0.047µF; ComponentLink1Description: Datasheet; ComponentLink1URL: https://api.kemet.com/component-edge/download/datasheet/C0402C473M4RAC7867.pdf; ComponentLink2Description: DigiKey Link; ComponentLink2URL: http://digikey.com/product-detail/en/kemet/C0402C473M4RAC7867/399-14280-1-ND/6827271; Device Package: 0402 (1005 Metric); LastUpdated: 9/2/2020 1:02:22 AM; Lifecycle Status: Active; Minimum Order: 1; Mounting Type: Surface Mount, MLCC; Operating Temperature: -55°C ~ 125°C; Package / Case: 0402 (1005 Metric); Packaging: TapeAndReel; PartId: 2718; Part Status: Active; Price: 0.01; Series: SMD Comm X7R; Size / Dimension: 0.039" L x 0.020" W (1.00mm x 0.50mm); Supplier 1: DigiKey; Supplier Part Number 1: 399-14280-1-ND; Temperature Coefficient: X7R; Thickness (Max): 0.022" (0.55mm); Voltage - Rated: 16V
footprint CAP 0402_1005
pins: 1, 2

## C0402C473Z4VAC7867
designator C?, comment 0.047µF
CAP CER 0.047UF 16V Y5V 0402; Part Number: C0402C473Z4VAC7867; Manufacturer: KEMET; Temperature Coefficient: Y5V (F); Tolerance: -20%, +80%; Value: 0.047µF; Applications: General Purpose; Capacitance: 0.047µF; ComponentLink1Description: Datasheet; ComponentLink1URL: https://api.kemet.com/component-edge/download/datasheet/C0402C104Z4VAC7867.pdf; ComponentLink2Description: DigiKey Link; ComponentLink2URL: http://digikey.com/product-detail/en/kemet/C0402C473Z4VAC7867/399-1042-1-ND/411317; Device Package: 0402 (1005 Metric); LastUpdated: 9/2/2020 1:02:24 AM; Lifecycle Status: Active; Minimum Order: 1; Mounting Type: Surface Mount, MLCC; Operating Temperature: -30°C ~ 85°C; Package / Case: 0402 (1005 Metric); Packaging: TapeAndReel; PartId: 1991; Part Status: Active; Price: 0.05; Series: SMD Comm Y5V; Size / Dimension: 0.039" L x 0.020" W (1.00mm x 0.50mm); Supplier 1: DigiKey; Supplier Part Number 1: 399-1042-1-ND; Thickness (Max): 0.022" (0.55mm); Voltage - Rated: 16V
footprint CAP 0402_1005
pins: 1, 2

## C0402C474K7PAC7867
designator C?, comment 0.47µF
CAP CER 0.47UF 4V X5R 0402; Part Number: C0402C474K7PAC7867; Manufacturer: KEMET; Tolerance: ±10%; Value: 0.47µF; Applications: General Purpose; Capacitance: 0.47µF; ComponentLink1Description: Datasheet; ComponentLink1URL: https://api.kemet.com/component-edge/download/datasheet/C0402C474K7PAC7867.pdf; ComponentLink2Description: DigiKey Link; ComponentLink2URL: http://digikey.com/product-detail/en/kemet/C0402C474K7PAC7867/399-14917-1-ND/7382466; Device Package: 0402 (1005 Metric); LastUpdated: 9/2/2020 1:01:21 AM; Lifecycle Status: Active; Minimum Order: 1; Mounting Type: Surface Mount, MLCC; Operating Temperature: -55°C ~ 85°C; Package / Case: 0402 (1005 Metric); Packaging: TapeAndReel; PartId: 13218; Part Status: Active; Price: 0.06; Series: SMD Comm X5R; Size / Dimension: 0.039" L x 0.020" W (1.00mm x 0.50mm); Supplier 1: DigiKey; Supplier Part Number 1: 399-14917-1-ND; Temperature Coefficient: X5R; Thickness (Max): 0.022" (0.55mm); Voltage - Rated: 4V
footprint CAP 0402_1005
pins: 1, 2

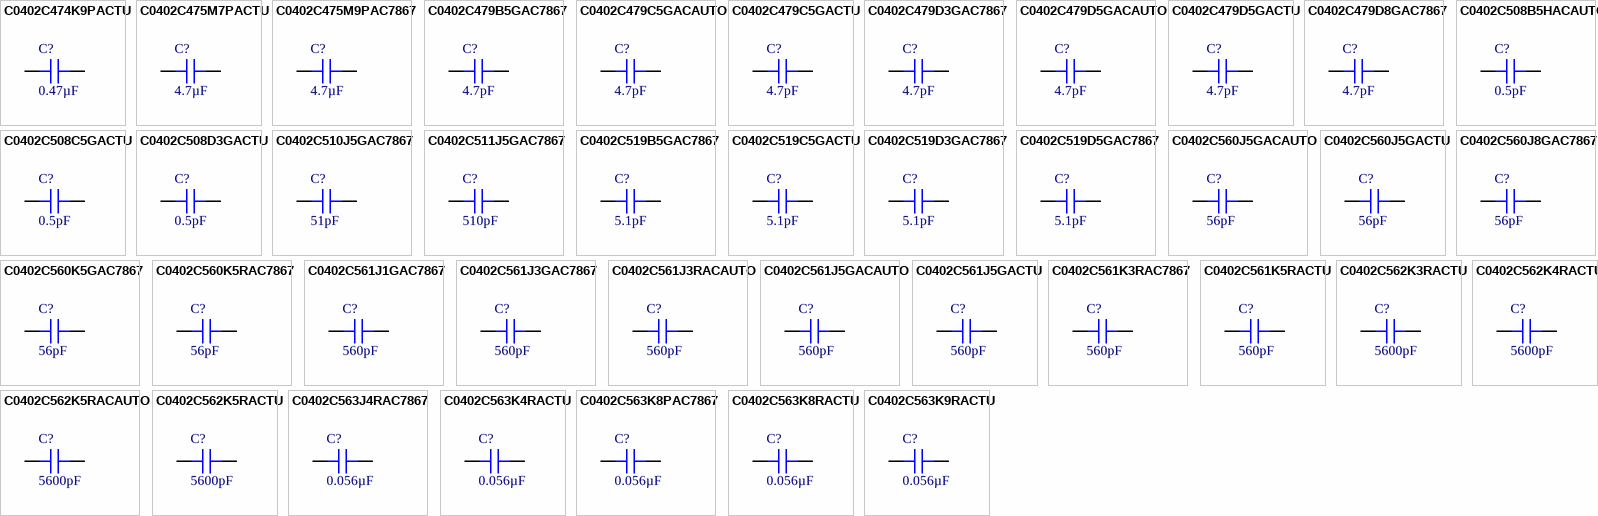
[diagram p44: symbols C0402C474K9PACTU to C0402C563K9RACTU]

## C0402C474K9PACTU
designator C?, comment 0.47µF
CAP CER 0.47UF 6.3V X5R 0402; Part Number: C0402C474K9PACTU; Manufacturer: KEMET; Tolerance: ±10%; Value: 0.47µF; Applications: General Purpose; Capacitance: 0.47µF; ComponentLink1Description: Datasheet; ComponentLink1URL: https://api.kemet.com/component-edge/download/datasheet/C0402C474K9PACTU.pdf; ComponentLink2Description: DigiKey Link; ComponentLink2URL: http://digikey.com/product-detail/en/kemet/C0402C474K9PACTU/399-4899-1-ND/1090894; Device Package: 0402 (1005 Metric); LastUpdated: 9/2/2020 1:02:15 AM; Lifecycle Status: Active; Minimum Order: 1; Mounting Type: Surface Mount, MLCC; Operating Temperature: -55°C ~ 85°C; Package / Case: 0402 (1005 Metric); Packaging: TapeAndReel; PartId: 5910; Part Status: Active; Price: 0.01; Series: SMD Comm X5R; Size / Dimension: 0.039" L x 0.020" W (1.00mm x 0.50mm); Supplier 1: DigiKey; Supplier Part Number 1: 399-4899-1-ND; Temperature Coefficient: X5R; Thickness (Max): 0.022" (0.55mm); Voltage - Rated: 6.3V
footprint CAP 0402_1005
pins: 1, 2

## C0402C475M7PACTU
designator C?, comment 4.7µF
CAP CER 4.7UF 4V X5R 0402; Part Number: C0402C475M7PACTU; Manufacturer: KEMET; Tolerance: ±20%; Value: 4.7µF; Applications: General Purpose; Capacitance: 4.7µF; ComponentLink1Description: Datasheet; ComponentLink1URL: https://api.kemet.com/component-edge/download/datasheet/C0402C475M7PACTU.pdf; ComponentLink2Description: DigiKey Link; ComponentLink2URL: http://digikey.com/product-detail/en/kemet/C0402C475M7PACTU/399-5499-1-ND/1950677; Device Package: 0402 (1005 Metric); LastUpdated: 9/2/2020 1:01:32 AM; Lifecycle Status: Active; Minimum Order: 1; Mounting Type: Surface Mount, MLCC; Operating Temperature: -55°C ~ 85°C; Package / Case: 0402 (1005 Metric); Packaging: TapeAndReel; PartId: 12802; Part Status: Active; Price: 0.05; Series: SMD Comm X5R; Size / Dimension: 0.039" L x 0.020" W (1.00mm x 0.50mm); Supplier 1: DigiKey; Supplier Part Number 1: 399-5499-1-ND; Temperature Coefficient: X5R; Thickness (Max): 0.022" (0.55mm); Voltage - Rated: 4V
footprint CAP 0402_1005
pins: 1, 2

## C0402C475M9PAC7867
designator C?, comment 4.7µF
CAP CER 4.7UF 6.3V X5R 0402; Part Number: C0402C475M9PAC7867; Manufacturer: KEMET; Tolerance: ±20%; Value: 4.7µF; Applications: General Purpose; Capacitance: 4.7µF; ComponentLink1Description: Datasheet; ComponentLink1URL: https://api.kemet.com/component-edge/download/datasheet/C0402C475M9PAC7867.pdf; ComponentLink2Description: DigiKey Link; ComponentLink2URL: http://digikey.com/product-detail/en/kemet/C0402C475M9PAC7867/399-13068-1-ND/5767555; Device Package: 0402 (1005 Metric); LastUpdated: 9/2/2020 1:02:25 AM; Lifecycle Status: Active; Minimum Order: 1; Mounting Type: Surface Mount, MLCC; Operating Temperature: -55°C ~ 85°C; Package / Case: 0402 (1005 Metric); Packaging: TapeAndReel; PartId: 1752; Part Status: Active; Price: 0.08; Series: SMD Comm X5R; Size / Dimension: 0.039" L x 0.020" W (1.00mm x 0.50mm); Supplier 1: DigiKey; Supplier Part Number 1: 399-13068-1-ND; Temperature Coefficient: X5R; Thickness (Max): 0.026" (0.65mm); Voltage - Rated: 6.3V
footprint CAP 0402_1005
pins: 1, 2

## C0402C479B5GAC7867
designator C?, comment 4.7pF
CAP CER 4.7PF 50V C0G/NP0 0402; Part Number: C0402C479B5GAC7867; Manufacturer: KEMET; Temperature Coefficient: C0G, NP0; Tolerance: ±0.1pF; Value: 4.7pF; Applications: General Purpose; Capacitance: 4.7pF; ComponentLink1Description: Datasheet; ComponentLink1URL: https://api.kemet.com/component-edge/download/datasheet/C0402C479B5GAC7867.pdf; ComponentLink2Description: DigiKey Link; ComponentLink2URL: http://digikey.com/product-detail/en/kemet/C0402C479B5GAC7867/399-19379-1-ND/9694286; Device Package: 0402 (1005 Metric); Features: Low ESL; LastUpdated: 9/2/2020 1:02:18 AM; Lifecycle Status: Active; Minimum Order: 1; Mounting Type: Surface Mount, MLCC; Operating Temperature: -55°C ~ 125°C; Package / Case: 0402 (1005 Metric); Packaging: TapeAndReel; PartId: 4533; Part Status: Active; Price: 0.14; Series: SMD Comm C0G; Size / Dimension: 0.039" L x 0.020" W (1.00mm x 0.50mm); Supplier 1: DigiKey; Supplier Part Number 1: 399-19379-1-ND; Thickness (Max): 0.022" (0.55mm); Voltage - Rated: 50V
footprint CAP 0402_1005
pins: 1, 2

## C0402C479C5GACAUTO
designator C?, comment 4.7pF
CAP CER SMD 0402 4.7PF .25PF% CO; Part Number: C0402C479C5GACAUTO; Manufacturer: KEMET; Temperature Coefficient: C0G, NP0; Tolerance: ±0.25pF; Voltage - Rated: 50V; Value: 4.7pF; Applications: Automotive; Capacitance: 4.7pF; ComponentLink1Description: Datasheet; ComponentLink1URL: https://api.kemet.com/component-edge/download/datasheet/C0402C479C5GACAUTO.pdf; ComponentLink2Description: DigiKey Link; ComponentLink2URL: http://digikey.com/product-detail/en/kemet/C0402C479C5GACAUTO/399-17559-1-ND/8572559; Device Package: 0402 (1005 Metric); Features: Low ESL; LastUpdated: 9/2/2020 1:02:25 AM; Lifecycle Status: Active; Minimum Order: 1; Mounting Type: Surface Mount, MLCC; Operating Temperature: -55°C ~ 125°C; Package / Case: 0402 (1005 Metric); Packaging: TapeAndReel; PartId: 1718; Part Status: Active; Price: 0.02; Ratings: AEC-Q200; Series: SMD Auto C0G; Size / Dimension: 0.039" L x 0.020" W (1.00mm x 0.50mm); Supplier 1: DigiKey; Supplier Part Number 1: 399-17559-1-ND; Thickness (Max): 0.022" (0.55mm)
footprint CAP 0402_1005
pins: 1, 2

## C0402C479C5GACTU
designator C?, comment 4.7pF
CAP CER 4.7PF 50V C0G/NP0 0402; Part Number: C0402C479C5GACTU; Manufacturer: KEMET; Temperature Coefficient: C0G, NP0; Tolerance: ±0.25pF; Value: 4.7pF; Applications: General Purpose; Capacitance: 4.7pF; ComponentLink1Description: Datasheet; ComponentLink1URL: https://api.kemet.com/component-edge/download/datasheet/C0402C479C5GACTU.pdf; ComponentLink2Description: DigiKey Link; ComponentLink2URL: http://digikey.com/product-detail/en/kemet/C0402C479C5GACTU/399-7803-1-ND/3471526; Device Package: 0402 (1005 Metric); Features: Low ESL; LastUpdated: 9/2/2020 1:02:09 AM; Lifecycle Status: Active; Minimum Order: 1; Mounting Type: Surface Mount, MLCC; Operating Temperature: -55°C ~ 125°C; Package / Case: 0402 (1005 Metric); Packaging: TapeAndReel; PartId: 8520; Part Status: Active; Price: 0.02; Series: SMD Comm C0G; Size / Dimension: 0.039" L x 0.020" W (1.00mm x 0.50mm); Supplier 1: DigiKey; Supplier Part Number 1: 399-7803-1-ND; Thickness (Max): 0.022" (0.55mm); Voltage - Rated: 50V
footprint CAP 0402_1005
pins: 1, 2

## C0402C479D3GAC7867
designator C?, comment 4.7pF
CAP CER 4.7PF 25V NP0 0402; Part Number: C0402C479D3GAC7867; Manufacturer: KEMET; Temperature Coefficient: C0G, NP0; Tolerance: ±0.5pF; Value: 4.7pF; Applications: General Purpose; Capacitance: 4.7pF; ComponentLink1Description: Datasheet; ComponentLink1URL: https://api.kemet.com/component-edge/download/datasheet/C0402C479D3GACTU.pdf; ComponentLink2Description: DigiKey Link; ComponentLink2URL: http://digikey.com/product-detail/en/kemet/C0402C479D3GAC7867/399-15333-1-ND/7386731; Device Package: 0402 (1005 Metric); Features: Low ESL; LastUpdated: 9/2/2020 1:01:20 AM; Lifecycle Status: Active; Minimum Order: 1; Mounting Type: Surface Mount, MLCC; Operating Temperature: -55°C ~ 125°C; Package / Case: 0402 (1005 Metric); Packaging: TapeAndReel; PartId: 13244; Part Status: Active; Price: 0.07; Series: SMD Comm C0G; Size / Dimension: 0.039" L x 0.020" W (1.00mm x 0.50mm); Supplier 1: DigiKey; Supplier Part Number 1: 399-15333-1-ND; Thickness (Max): 0.022" (0.55mm); Voltage - Rated: 25V
footprint CAP 0402_1005
pins: 1, 2